# EAGLE library part NCP59151 (library hsk_2012)
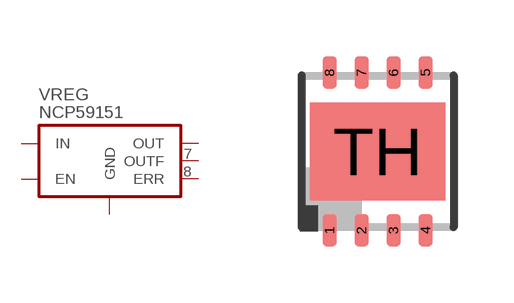
[diagram p38: symbol with the pads of DFN8-4X4; footprint DFN8-4X4]

Designator prefix VREG

## NCP59151  [DFN8-4X4]
1  GND  in
2  EN  in
3  IN  in
6  OUT  pas
7  OUTF
8  ERR
TH  GND  in

## Footprint DFN8-4X4 (pad centres in mm)
DFN8 4x4 mm DRM (S-PDSO-N8) Source: opa277.pdf
smd 0.35 x 0.8: 1 -1.2,-1.975; 2 -0.4,-1.975; 3 0.4,-1.975; 4 1.2,-1.975; 5 1.2,1.975; 6 0.4,1.975; 7 -0.4,1.975; 8 -1.2,1.975
smd 3.38 x 2.45: TH 0,0